# Altium footprint library RPSLib_Opto.PcbLib: 7 footprints
Each footprint in its own frame and in the unit in brackets; x right, y up, seen from the top. Pads: shape width x height; smd on the part's side, far side on the other; paste and mask are expansions set on the pad; w line width, h text height; cw(c..) or ccw(c..) is an arc to the next point about the centre after c.
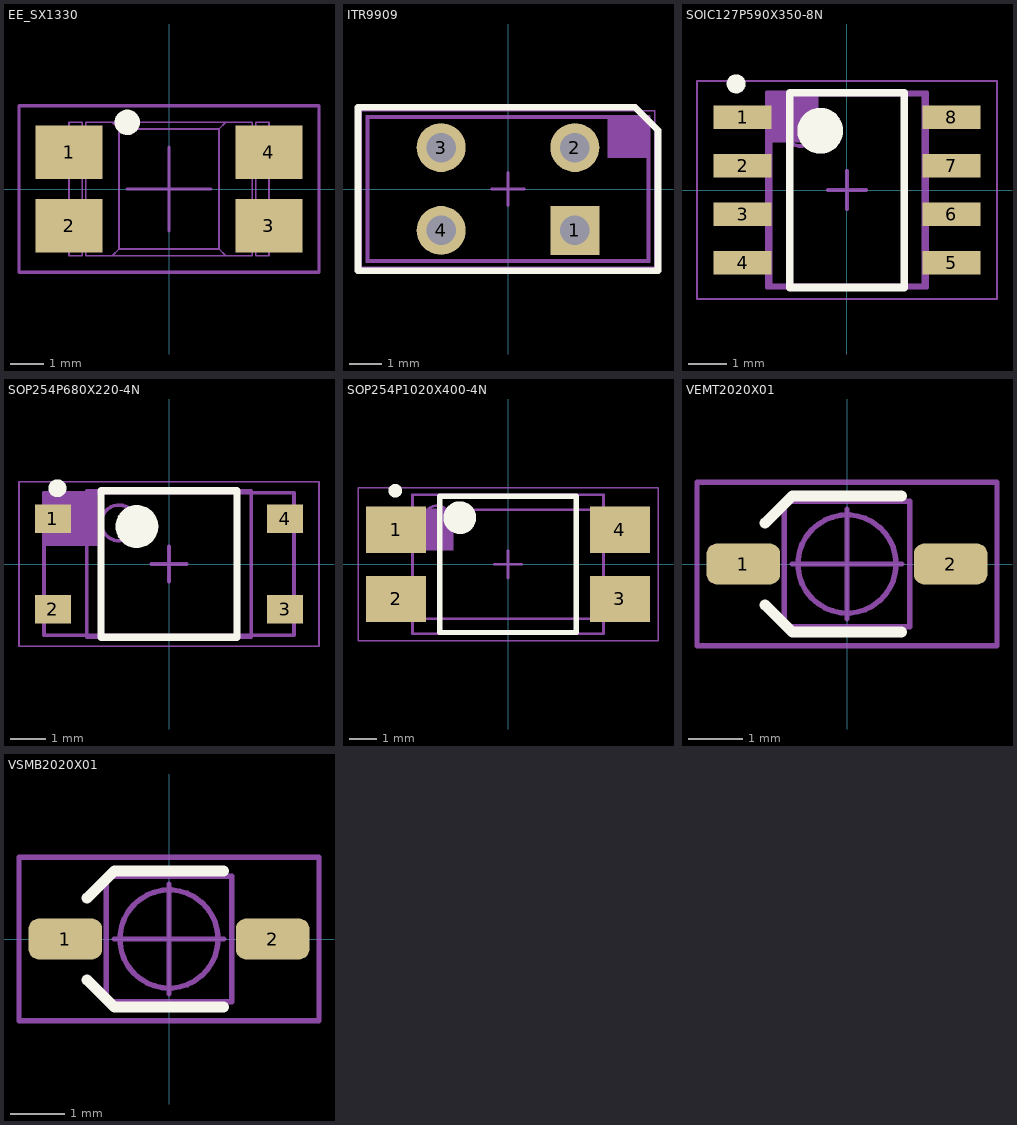
[diagram p0: the footprints below, top view; thin cyan lines are the x and y axes]

## EE_SX1330 [mm] "Photointerrupter"
height 5
pads (4):
  rect 2x1.6 smd mask+0.07: 1(-3,1.1) 2(-3,-1.1) 3(3,-1.1) 4(3,1.1)
Top Overlay:
  circle w0.4: c-1.25,2 r0.18
Mechanical 13:
  lines w0.05: -2.6,-1.75 -2.5,-1.75 ; -2.6,1.75 -2.5,1.75 ; 2.5,-1.75 2.6,-1.75 ; 2.5,1.75 2.6,1.75 ; -1.7,-2 -1.5,-1.8 ; -1.7,-2 -2.5,-2 -2.5,2 -1.7,2 ; -1.7,-2 1.7,-2 ; -1.7,2 -1.5,1.8 ; -1.7,2 1.7,2 ; -1.5,-1.8 -1.5,1.8 ; -1.5,-1.8 1.5,-1.8 ; -1.5,1.8 1.5,1.8 ; 1.5,-1.8 1.7,-2 ; 1.5,-1.8 1.5,1.8 ; 1.5,1.8 1.7,2 ; 1.7,-2 2.5,-2 2.5,2 1.7,2 ; -3,-2 -2.6,-2 -2.6,2 -3,2 -3,-2 ; 2.6,-2 3,-2 3,2 2.6,2 2.6,-2
Mechanical 15:
  lines w0.1: -1.25,0 1.25,0 ; 0,-1.25 0,1.25 ; -4.5,-2.5 -4.5,2.5 4.5,2.5 4.5,-2.5 -4.5,-2.5
3D body "EE_SX1330.step": height 5, standoff 0, extent -3,-2 3,2

## ITR9909 [mm] "DIP-4 Reflective Optical Interrupters"
height 5.9
pads (4):
  rect 1.5x1.5 hole 0.9 mask+0.07: 1(2.05,-1.27)
  round 1.5 hole 0.9 mask+0.07: 2(2.05,1.27) 3(-2.05,1.27) 4(-2.05,-1.27)
Top Overlay:
  lines w0.2: -4.6,-2.5 -4.6,2.5 3.9,2.5 4.6,1.8 4.6,-2.5 -4.6,-2.5
Mechanical 1:
  rectangle: 3.05,0.95 4.3,2.2
  lines w0.1: -4.3,-2.2 4.3,-2.2 4.3,2.2 -4.3,2.2 -4.3,-2.2
  text ".Designator" at -1.126,-0.113 h0.5
Mechanical 13:
  lines w0.05: -4.35,-2.25 -4.35,2.25 4.35,2.25 4.35,-2.25 -4.35,-2.25
Mechanical 15:
  lines w0.05: -4.5,-2.4 4.5,-2.4 4.5,2.4 -4.5,2.4 -4.5,-2.4
  lines w0.1: -0.5,0 0.5,0 ; 0,-0.5 0,0.5
3D body "ITR9909.stp": height 5.9, standoff -5, extent -4.35,-2.25 4.35,2.25

## SOIC127P590X350-8N [mm] "SOIC, 8-Leads, Body 4,88x3,91mm, Pitch 1,27mm, IPC Medium Density"
height 3.5
pads (8):
  rect 1.52x0.61 smd mask+0.07: 1(-2.73,1.905) 2(-2.73,0.635) 3(-2.73,-0.635) 4(-2.73,-1.905) 5(2.73,-1.905) 6(2.73,-0.635) 7(2.73,0.635) 8(2.73,1.905)
Top Overlay:
  circle w0.6: c-0.7,1.55 r0.3
  circle w0.25: c-2.9,2.78 r0.125
  lines w0.2: -1.5,-2.55 1.5,-2.55 1.5,2.55 -1.5,2.55 -1.5,-2.55
Mechanical 1:
  rectangle: -2,1.25 -0.75,2.5
  lines w0.1: -2,-2.5 2,-2.5 2,2.5 -2,2.5 -2,-2.5
  text ".Designator" at -1.126,-0.113 h0.5
Mechanical 13:
  circle w0.1: c-1.2,1.65 r0.5
  lines w0.1: -2.1,-2.55 2.1,-2.55 2.1,2.55 -2.1,2.55 -2.1,-2.55
Mechanical 15:
  lines w0.05: -3.925,-2.85 3.925,-2.85 3.925,2.85 -3.925,2.85 -3.925,-2.85
  lines w0.1: -0.5,0 0.5,0 ; 0,-0.5 0,0.5
3D body "SOIC127P590X350-8N.step": height 3.5, standoff 0.02, extent -2.94,-2.55 2.94,2.55

## SOP254P680X220-4N [mm] "SOP, 4-Leads, Body 3,80x4,40mm, Pitch 2,54mm, IPC Medium Density"
height 2.2
pads (4):
  rect 1x0.8 smd: 1(-3.25,1.27) 2(-3.25,-1.27) 3(3.25,-1.27) 4(3.25,1.27)
Top Overlay:
  circle w0.25: c-3.125,2.12 r0.125
  circle w0.6: c-0.9,1.05 r0.3
  lines w0.2: -1.9,-2.05 -1.9,2.05 1.9,2.05 1.9,-2.05 -1.9,-2.05
Mechanical 1:
  rectangle: -3.5,0.5 -2,2
  lines w0.1: -3.5,-2 3.5,-2 3.5,2 -3.5,2 -3.5,-2
  text ".Designator" at -2.252,-0.226 h1
Mechanical 13:
  circle w0.1: c-1.4,1.15 r0.5
  lines w0.1: -2.3,-2.05 -2.3,2.05 2.3,2.05 2.3,-2.05 -2.3,-2.05
Mechanical 15:
  lines w0.05: -4.2,-2.3 -4.2,2.3 4.2,2.3 4.2,-2.3 -4.2,-2.3
  lines w0.1: -0.5,0 0.5,0 ; 0,-0.5 0,0.5
3D body "User Library-LTV-356T.step": height 2.1, standoff 0, extent -3.5,-1.925 3.5,1.925

## SOP254P1020X400-4N [mm] "SOP, 4-Leads, Body 4,60x6,50mm, Pitch 2,54mm, IPC Medium Density"
height 4
pads (4):
  rect 2.2x1.7 smd: 1(-4.1,1.27) 2(-4.1,-1.27) 3(4.1,-1.27) 4(4.1,1.27)
Top Overlay:
  circle w0.6: c-1.767,1.709 r0.3
  circle w0.25: c-4.136,2.697 r0.125
  lines w0.2: -2.5,-2.5 2.5,-2.5 2.5,2.5 -2.5,2.5 -2.5,-2.5
Mechanical 1:
  rectangle: -3.5,0.5 -2,2
  lines w0.1: -3.5,-2 -3.5,2 3.5,2 3.5,-2 -3.5,-2
  text ".Designator" at -2.252,-0.226 h1
Mechanical 13:
  circle w0.1: c-2.6,1.65 r0.5
  lines w0.1: -3.5,-2.55 3.5,-2.55 3.5,2.55 -3.5,2.55 -3.5,-2.55
Mechanical 15:
  lines w0.05: -5.5,-2.8 5.5,-2.8 5.5,2.8 -5.5,2.8 -5.5,-2.8
  lines w0.1: -0.5,0 0.5,0 ; 0,-0.5 0,0.5
3D body "User Library-PC817 Gullwing Assembly.step": height 3.85, standoff 0, extent -5,-2.29 5,2.29

## VEMT2020X01 [mm] "Phototransistor 2.3x2.3, 2.8 height"
height 2.8
pads (2):
  rrect50% 1.35x0.75 smd mask+0.07: 1(-1.9,0) 2(1.9,0)
Top Overlay:
  lines w0.2: -1.5,-0.75 -1,-1.25 1,-1.25 ; -1.5,0.75 -1,1.25 1,1.25
Mechanical 13:
  circle w0.1: c0,0 r0.9
  lines w0.1: -1.15,-1.15 1.15,-1.15 1.15,1.15 -1.15,1.15 -1.15,-1.15
Mechanical 15:
  lines w0.1: -1,0 1,0 ; 0,-1 0,1 ; -2.75,-1.5 -2.75,1.5 2.75,1.5 2.75,-1.5 -2.75,-1.5
3D body "VEMT2020X01.step": height 2.77, standoff 0.05, extent -2.1,-1.15 2.1,1.15

## VSMB2020X01 [mm] "IR LED 2.3x2.3, 2.8 height"
height 2.8
pads (2):
  rrect50% 1.35x0.75 smd mask+0.07: 1(-1.9,0) 2(1.9,0)
Top Overlay:
  lines w0.2: -1.5,-0.75 -1,-1.25 1,-1.25 ; -1.5,0.75 -1,1.25 1,1.25
Mechanical 13:
  circle w0.1: c0,0 r0.9
  lines w0.1: -1.15,-1.15 1.15,-1.15 1.15,1.15 -1.15,1.15 -1.15,-1.15
Mechanical 15:
  lines w0.1: -1,0 1,0 ; 0,-1 0,1 ; -2.75,-1.5 -2.75,1.5 2.75,1.5 2.75,-1.5 -2.75,-1.5
3D body "VEMT2020X01.step": height 2.77, standoff 0.05, extent -2.1,-1.15 2.1,1.15